# Altium footprint library Potentiometer_SMD.PcbLib: 26 footprints (part 2 of 2)
Each footprint in its own frame and in the unit in brackets; x right, y up, seen from the top. Pads: shape width x height; smd on the part's side, far side on the other; paste and mask are expansions set on the pad; w line width, h text height; cw(c..) or ccw(c..) is an arc to the next point about the centre after c.
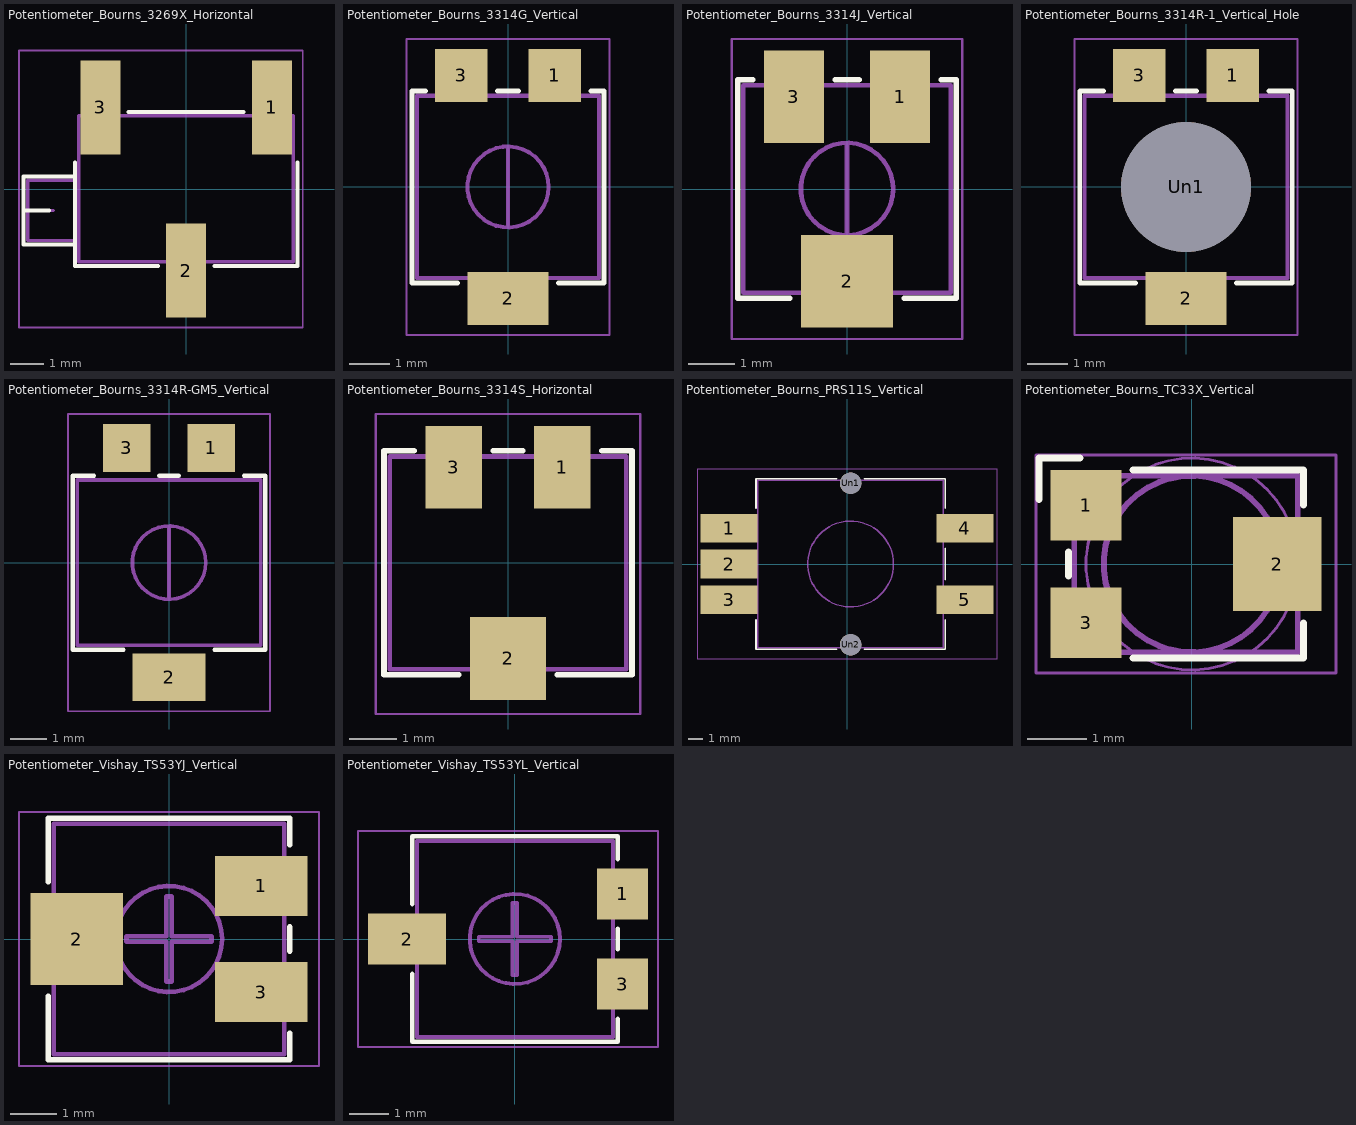
[diagram p1: the footprints below, top view; thin cyan lines are the x and y axes]

## Potentiometer_Bourns_3269X_Horizontal [mm]
pads (3):
  rect 1.19x2.79 smd: 1(2.54,2.415) 2(0,-2.415) 3(-2.54,2.415)
F.SilkS:
  lines w0.12: -4.815,-0.635 -4.056,-0.635 ; -3.295,0.779 -3.295,-2.275 -0.835,-2.275 ; -1.705,2.285 1.705,2.285 ; 0.835,-2.275 3.295,-2.275 3.295,0.779 ; -4.815,-1.645 -4.815,0.375 -3.296,0.375 -3.296,-1.645 -4.815,-1.645
F.CrtYd:
  lines w0.05: -4.95,-4.1 -4.95,4.1 3.45,4.1 3.45,-4.1 -4.95,-4.1
F.Fab:
  lines w0.1: -4.695,-0.635 -3.935,-0.635 ; -4.695,-1.525 -4.695,0.255 -3.175,0.255 -3.175,-1.525 -4.695,-1.525 ; -3.175,-2.155 3.175,-2.155 3.175,2.165 -3.175,2.165 -3.175,-2.155
  text "'.Designator'" at -4.047,-0.835 h1

## Potentiometer_Bourns_3314G_Vertical [mm]
pads (3):
  rect 1.3x1.3 smd: 1(1.15,2.75) 3(-1.15,2.75)
  rect 2x1.3 smd: 2(0,-2.75)
F.SilkS:
  lines w0.12: -2.039,2.37 -2.37,2.37 -2.37,-2.37 -1.24,-2.37 ; -0.259,2.37 0.26,2.37 ; 1.24,-2.37 2.37,-2.37 2.37,2.37 2.04,2.37
F.CrtYd:
  lines w0.05: -2.5,-3.65 -2.5,3.65 2.5,3.65 2.5,-3.65 -2.5,-3.65
F.Fab:
  circle w0.1: c0,0 r1
  lines w0.1: -2.25,-2.25 -2.25,2.25 2.25,2.25 2.25,-2.25 -2.25,-2.25 ; 0,-0.99 0.001,0.989 0,-0.99
  text "'.Designator'" at -2.605,1.115 h0.63

## Potentiometer_Bourns_3314J_Vertical [mm]
pads (3):
  rect 1.3x2 smd: 1(1.15,2) 3(-1.15,2)
  rect 2x2 smd: 2(0,-2)
F.SilkS:
  lines w0.12: -2.039,2.37 -2.37,2.37 -2.37,-2.37 -1.24,-2.37 ; -0.259,2.37 0.26,2.37 ; 1.24,-2.37 2.37,-2.37 2.37,2.37 2.04,2.37
F.CrtYd:
  lines w0.05: -2.5,-3.25 -2.5,3.25 2.5,3.25 2.5,-3.25 -2.5,-3.25
F.Fab:
  circle w0.1: c0,0 r1
  lines w0.1: -2.25,-2.25 2.25,-2.25 2.25,2.25 -2.25,2.25 -2.25,-2.25 ; 0,-0.99 0.001,0.989 0,-0.99
  text "'.Designator'" at -2.605,1.115 h0.63

## Potentiometer_Bourns_3314R-1_Vertical_Hole [mm]
pads (4):
  rect 1.3x1.3 smd: 1(1.15,2.75) 3(-1.15,2.75)
  rect 2x1.3 smd: 2(0,-2.75)
  round 3.2 hole 3.2: Un1(0,0)
F.SilkS:
  lines w0.12: -2.039,2.37 -2.62,2.37 -2.62,-2.37 -1.24,-2.37 ; -0.26,2.37 0.26,2.37 ; 1.24,-2.37 2.62,-2.37 2.62,2.37 2.04,2.37
F.CrtYd:
  lines w0.05: -2.75,-3.65 2.75,-3.65 2.75,3.65 -2.75,3.65 -2.75,-3.65
F.Fab:
  lines w0.1: -2.5,-2.25 2.5,-2.25 2.5,2.25 -2.5,2.25 -2.5,-2.25
  text "'.Designator'" at -2.605,1.115 h0.63

## Potentiometer_Bourns_3314R-GM5_Vertical [mm]
pads (3):
  rect 1.3x1.3 smd: 1(1.155,3.125) 3(-1.155,3.125)
  rect 2x1.3 smd: 2(0,-3.125)
F.SilkS:
  lines w0.12: -2.044,2.37 -2.62,2.37 -2.62,-2.37 -1.24,-2.37 ; -0.264,2.37 0.265,2.37 ; 1.24,-2.37 2.62,-2.37 2.62,2.37 2.045,2.37
F.CrtYd:
  lines w0.05: -2.75,-4.05 2.75,-4.05 2.75,4.05 -2.75,4.05 -2.75,-4.05
F.Fab:
  circle w0.1: c0,0 r1
  lines w0.1: -2.5,-2.25 2.5,-2.25 2.5,2.25 -2.5,2.25 -2.5,-2.25 ; 0,-0.99 0.001,0.989 0,-0.99
  text "'.Designator'" at -2.605,1.115 h0.63

## Potentiometer_Bourns_3314S_Horizontal [mm]
pads (3):
  rect 1.2x1.75 smd: 1(1.15,2.025) 3(-1.15,2.025)
  rect 1.6x1.75 smd: 2(0,-2.025)
F.SilkS:
  lines w0.12: -1.99,2.37 -2.625,2.37 -2.625,-2.37 -1.04,-2.37 ; -0.31,2.37 0.31,2.37 ; 1.04,-2.37 2.625,-2.37 2.625,2.37 1.99,2.37
F.CrtYd:
  lines w0.05: -2.8,-3.2 2.8,-3.2 2.8,3.15 -2.8,3.15 -2.8,-3.2
F.Fab:
  lines w0.1: -2.505,-2.25 -2.505,2.25 2.505,2.25 2.505,-2.25 -2.505,-2.25
  text "'.Designator'" at -4.047,-0.84 h1

## Potentiometer_Bourns_PRS11S_Vertical [mm]
pads (7):
  rect 4x2 smd: 1(-8.25,2.5) 2(-8.25,0) 3(-8.25,-2.5) 4(8.25,2.5) 5(8.25,-2.5)
  round 1.5 hole 1.5: Un1(0.25,5.65) Un2(0.25,-5.65)
F.SilkS:
  lines w0.12: -6.37,-3.9 -6.37,-5.97 -0.723,-5.97 ; -6.37,3.9 -6.37,5.97 -0.723,5.97 ; 1.224,-5.97 6.87,-5.97 6.87,-3.9 ; 1.224,5.97 6.87,5.97 6.87,3.9 ; 6.87,-1.1 6.87,1.1
F.CrtYd:
  lines w0.05: -10.5,-6.65 -10.5,6.65 10.5,6.65 10.5,-6.65 -10.5,-6.65
F.Fab:
  circle w0.1: c0.25,0 r3
  lines w0.1: -6.25,-5.85 -6.25,5.85 6.75,5.85 6.75,-5.85 -6.25,-5.85
  text "'.Designator'" at -4.41,-4.047 h1

## Potentiometer_Bourns_TC33X_Vertical [mm]
pads (3):
  rect 1.2x1.2 smd: 1(-1.8,1) 3(-1.8,-1)
  rect 1.5x1.6 smd: 2(1.45,0)
F.SilkS:
  lines w0.12: -2.6,1.1 -2.6,1.8 -1.9,1.8 ; -2.1,-0.2 -2.1,0.2 ; -1,-1.6 1.9,-1.6 1.9,-1 ; -1,1.6 1.9,1.6 1.9,1
Dwgs.User:
  circle w0.05: c0,0 r1.8
F.CrtYd:
  lines w0.05: -2.65,-1.85 -2.65,1.85 2.45,1.85 2.45,-1.85 -2.65,-1.85
F.Fab:
  circle w0.1: c0,0 r1.5
  lines w0.1: -2,-1.5 -2,0.75 -1.25,1.5 1.8,1.5 1.8,-1.5 -2,-1.5
  text "'.Designator'" at -2.833,-0.588 h0.7
Cmts.User:
  text "Wiper may be / anywhere within / circle shown" at -0.963,0.416 h0.15

## Potentiometer_Vishay_TS53YJ_Vertical [mm]
pads (3):
  rect 2x1.3 smd: 1(2,1.15) 3(2,-1.15)
  rect 2x2 smd: 2(-2,0)
F.SilkS:
  lines w0.12: -2.62,-1.24 -2.62,-2.62 2.62,-2.62 2.62,-2.04 ; -2.62,1.24 -2.62,2.62 2.62,2.62 2.62,2.039 ; 2.62,-0.26 2.62,0.26
F.CrtYd:
  lines w0.05: -3.25,-2.75 3.25,-2.75 3.25,2.75 -3.25,2.75 -3.25,-2.75
F.Fab:
  circle w0.1: c0,0 r1.15
  lines w0.1: -2.5,-2.5 -2.5,2.5 2.5,2.5 2.5,-2.5 -2.5,-2.5 ; -0.92,-0.058 -0.058,-0.058 -0.058,-0.92 0.058,-0.92 0.058,-0.058 0.92,-0.058 0.92,0.058 0.058,0.058 0.058,0.92 -0.058,0.92 -0.058,0.058 -0.92,0.058 -0.92,-0.058
  text "'.Designator'" at -2.8,1.381 h0.68

## Potentiometer_Vishay_TS53YL_Vertical [mm]
pads (3):
  rect 1.3x1.3 smd: 1(2.75,1.15) 3(2.75,-1.15)
  rect 2x1.3 smd: 2(-2.75,0)
F.SilkS:
  lines w0.12: -2.62,-0.89 -2.62,-2.62 2.62,-2.62 2.62,-2.04 ; -2.62,0.89 -2.62,2.62 2.62,2.62 2.62,2.039 ; 2.62,-0.26 2.62,0.26
F.CrtYd:
  lines w0.05: -4,-2.75 3.65,-2.75 3.65,2.75 -4,2.75 -4,-2.75
F.Fab:
  circle w0.1: c0,0 r1.15
  lines w0.1: -2.5,-2.5 2.5,-2.5 2.5,2.5 -2.5,2.5 -2.5,-2.5 ; -0.92,-0.058 -0.058,-0.058 -0.058,-0.92 0.058,-0.92 0.058,-0.058 0.92,-0.058 0.92,0.058 0.058,0.058 0.058,0.92 -0.058,0.92 -0.058,0.058 -0.92,0.058 -0.92,-0.058
  text "'.Designator'" at -2.8,1.381 h0.68